# Altium footprint library Maxim.PcbLib: 3 footprints
Each footprint in its own frame and in the unit in brackets; x right, y up, seen from the top. Pads: shape width x height; smd on the part's side, far side on the other; paste and mask are expansions set on the pad; w line width, h text height; cw(c..) or ccw(c..) is an arc to the next point about the centre after c.
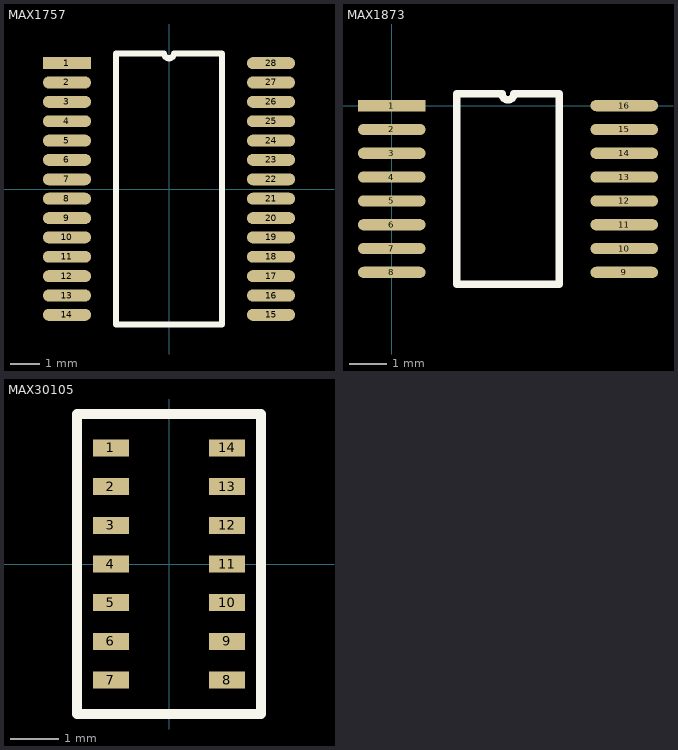
[diagram p0: the footprints below, top view; thin cyan lines are the x and y axes]

## MAX1757 [mm]
pads (28):
  rect 1.62x0.4 smd: 1(-3.425,4.225)
  oval 1.62x0.4 smd: 2(-3.425,3.575) 3(-3.425,2.925) 4(-3.425,2.275) 5(-3.425,1.625) 6(-3.425,0.975) 7(-3.425,0.325) 8(-3.425,-0.325) 9(-3.425,-0.975) 10(-3.425,-1.625) 11(-3.425,-2.275) 12(-3.425,-2.925) 13(-3.425,-3.575) 14(-3.425,-4.225) 15(3.425,-4.225) 16(3.425,-3.575) 17(3.425,-2.925) 18(3.425,-2.275) 19(3.425,-1.625) 20(3.425,-0.975) 21(3.425,-0.325) 22(3.425,0.325) 23(3.425,0.975) 24(3.425,1.625) 25(3.425,2.275) 26(3.425,2.925) 27(3.425,3.575) 28(3.425,4.225)
Top Overlay:
  lines w0.2: -1.78,-4.55 -1.78,4.55 -0.162,4.55 ccw(c0,4.55) 0.162,4.55 1.78,4.55 1.78,-4.55 -1.78,-4.55
3D body: height 2, standoff 0, extent -2.7,-5.2 2.7,5.2

## MAX1873 [mm]
pads (16):
  rect 1.8x0.3 smd: 1(0,0)
  oval 1.8x0.3 smd: 2(0,-0.635) 3(0,-1.27) 4(0,-1.905) 5(0,-2.54) 6(0,-3.175) 7(0,-3.81) 8(0,-4.445) 9(6.2,-4.445) 10(6.2,-3.81) 11(6.2,-3.175) 12(6.2,-2.54) 13(6.2,-1.905) 14(6.2,-1.27) 15(6.2,-0.635) 16(6.2,0)
Top Overlay:
  lines w0.2: 1.735,-4.763 1.735,0.318 2.941,0.318 ccw(c3.1,0.318) 3.259,0.317 4.465,0.318 4.465,-4.763 1.735,-4.763
3D body: height 1.75, standoff 0, extent 0,-5 6.2,0.5

## MAX30105 [mm] "Optical Sensor for Smoke Detection"
pads (14):
  rect 0.75x0.35 smd: 1(-1.2,2.4) 2(-1.2,1.6) 3(-1.2,0.8) 4(-1.2,0) 5(-1.2,-0.8) 6(-1.2,-1.6) 7(-1.2,-2.4) 8(1.2,-2.4) 9(1.2,-1.6) 10(1.2,-0.8) 11(1.2,0) 12(1.2,0.8) 13(1.2,1.6) 14(1.2,2.4)
Top Overlay:
  lines w0.2: -1.9,-3.1 1.9,-3.1 1.9,3.1 -1.9,3.1 -1.9,-3.1
3D body: height 1.65, standoff 1, extent -1,-2.16 1,-1.16
3D body: height 1.65, standoff 1, extent -1,-0.6 1,2.2
3D body: height 1.3, standoff 0, extent -1.7,-2.9 1.7,2.9